# Altium footprint library VibinTest12.PcbLib: 9 footprints
Each footprint in its own frame and in the unit in brackets; x right, y up, seen from the top. Pads: shape width x height; smd on the part's side, far side on the other; paste and mask are expansions set on the pad; w line width, h text height; cw(c..) or ccw(c..) is an arc to the next point about the centre after c.
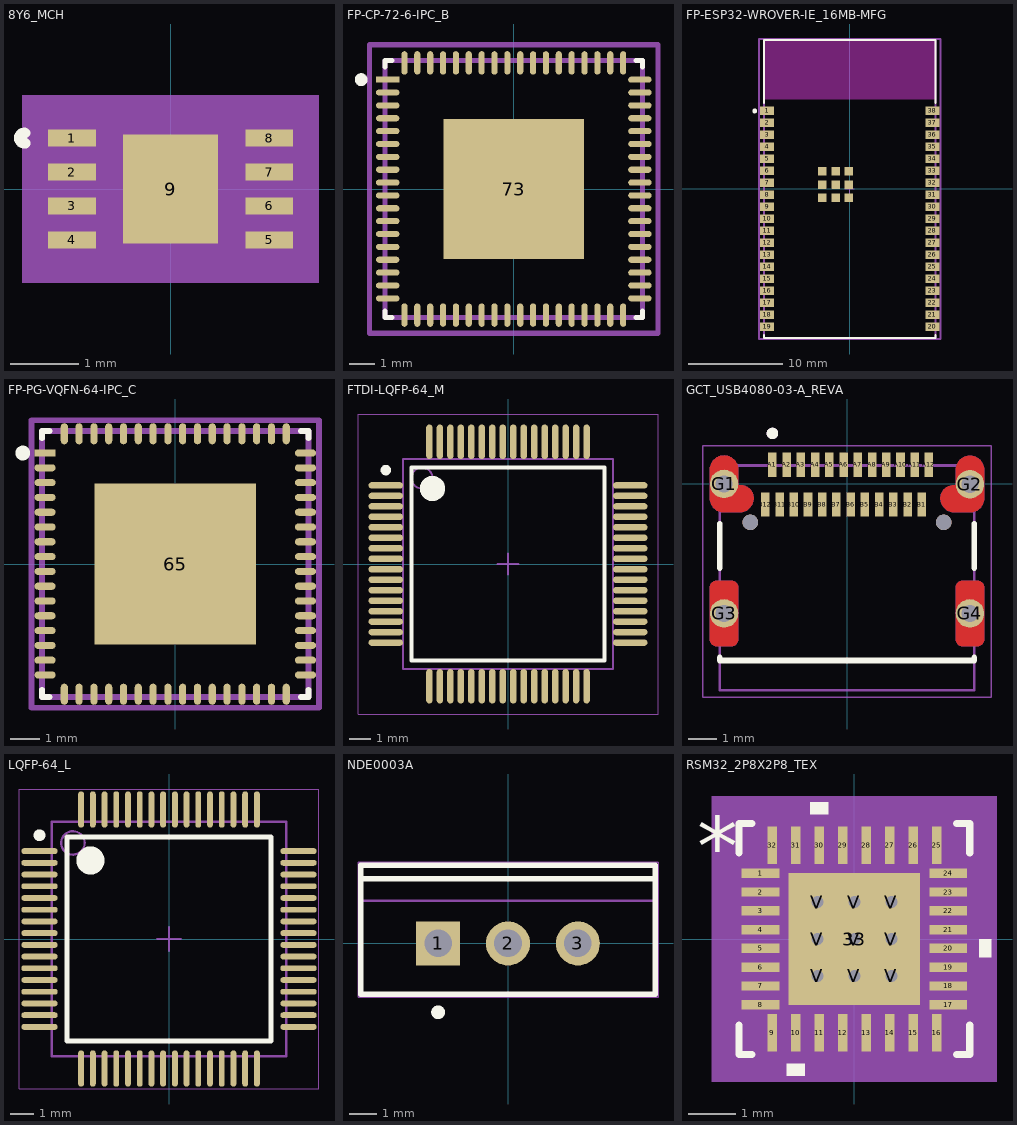
[diagram p0: the footprints below, top view; thin cyan lines are the x and y axes]

## 8Y6_MCH [mm]
pads (9):
  rect 0.705x0.249 smd paste+0 mask+0: 1(-1.452,0.75) 2(-1.452,0.25) 3(-1.452,-0.25) 4(-1.452,-0.75) 5(1.452,-0.75) 6(1.452,-0.25) 7(1.452,0.25) 8(1.452,0.75)
  rect 1.4x1.6 smd paste+0 mask+0: 9(0,0)
Top Overlay:
  lines w0.152: -2.138,0.676 cw(c-2.156,0.75) -2.138,0.824
Top Assembly:
  region: 2.186,-1.381 -2.186,-1.381 -2.186,1.381 2.186,1.381
Top 3D Body:
  lines w0: -0.305,1 ccw(c0,1) 0.305,1
  lines w0.025: -1.5,-1 -1.5,1 1.5,1 1.5,-1 -1.5,-1
Top Courtyard:
  region: -1.754,-1.129 -2.059,-1.129 -2.059,1.129 -1.754,1.129 -1.754,1.254 1.754,1.254 1.754,1.129 2.059,1.129 2.059,-1.129 1.754,-1.129 1.754,-1.254 -1.754,-1.254
  lines w0.152: -2.059,-1.129 -1.754,-1.129 -1.754,-1.254 1.754,-1.254 1.754,-1.129 2.059,-1.129 2.059,1.129 1.754,1.129 1.754,1.254 -1.754,1.254 -1.754,1.129 -2.059,1.129 -2.059,-1.129
3D body "8Y6_MCH.step": height 0.6, standoff 0, extent -1.5,-1 1.5,1
3D body "8Y6_MCH.step": height 0.6, standoff 0, extent -1.5,-1 1.5,1

## FP-CP-72-6-IPC_B [mm]
pads (73):
  rect 0.91x0.239 smd paste+0 mask+0: 1(-4.901,4.25)
  rrect100% 0.91x0.239 smd paste+0 mask+0: 2(-4.901,3.75) 3(-4.901,3.25) 4(-4.901,2.75) 5(-4.901,2.25) 6(-4.901,1.75) 7(-4.901,1.25) 8(-4.901,0.75) 9(-4.901,0.25) 10(-4.901,-0.25) 11(-4.901,-0.75) 12(-4.901,-1.25) 13(-4.901,-1.75) 14(-4.901,-2.25) 15(-4.901,-2.75) 16(-4.901,-3.25) 17(-4.901,-3.75) 18(-4.901,-4.25) 37(4.901,-4.25) 38(4.901,-3.75) 39(4.901,-3.25) 40(4.901,-2.75) 41(4.901,-2.25) 42(4.901,-1.75) 43(4.901,-1.25) 44(4.901,-0.75) 45(4.901,-0.25) 46(4.901,0.25) 47(4.901,0.75) 48(4.901,1.25) 49(4.901,1.75) 50(4.901,2.25) 51(4.901,2.75) 52(4.901,3.25) 53(4.901,3.75) 54(4.901,4.25)
  rrect100% 0.239x0.91 smd paste+0 mask+0: 19(-4.25,-4.901) 20(-3.75,-4.901) 21(-3.25,-4.901) 22(-2.75,-4.901) 23(-2.25,-4.901) 24(-1.75,-4.901) 25(-1.25,-4.901) 26(-0.75,-4.901) 27(-0.25,-4.901) 28(0.25,-4.901) 29(0.75,-4.901) 30(1.25,-4.901) 31(1.75,-4.901) 32(2.25,-4.901) 33(2.75,-4.901) 34(3.25,-4.901) 35(3.75,-4.901) 36(4.25,-4.901) 55(4.25,4.901) 56(3.75,4.901) 57(3.25,4.901) 58(2.75,4.901) 59(2.25,4.901) 60(1.75,4.901) 61(1.25,4.901) 62(0.75,4.901) 63(0.25,4.901) 64(-0.25,4.901) 65(-0.75,4.901) 66(-1.25,4.901) 67(-1.75,4.901) 68(-2.25,4.901) 69(-2.75,4.901) 70(-3.25,4.901) 71(-3.75,4.901) 72(-4.25,4.901)
  rect 5.45x5.45 smd paste-1000 mask+0: 73(0,0)
Top Overlay:
  circle w0.25: c-5.931,4.25 r0.125
  lines w0.2: -5,-4.745 -5,-5 -4.745,-5 ; -5,4.745 -5,5 -4.745,5 ; 4.745,-5 5,-5 5,-4.745 ; 4.745,5 5,5 5,4.745
Top Paste:
  rectangle: -2.057,0.334 -0.334,2.057
  rectangle: 0.334,0.334 2.057,2.057
  rectangle: -2.057,-2.057 -0.334,-0.334
  rectangle: 0.334,-2.057 2.057,-0.334
Top Assembly:
  lines w0.2: -5.606,-5.606 5.606,-5.606 5.606,5.606 -5.606,5.606 -5.606,-5.606
  text ".Designator" at 0,-0.001 h1
Top 3D Body:
  lines w0.2: -5,-5 5,-5 5,5 -5,5 -5,-5
Top Courtyard:
  lines w0.2: -5.606,-5.606 5.606,-5.606 5.606,5.606 -5.606,5.606 -5.606,-5.606
Top Component Center:
  lines w0.1: -0.5,0 0.5,0 ; 0,-0.5 0,0.5
3D body "IC_Analog_Devices_AD9528BCPZ_eec.STEP": height 0.25, standoff 0, extent -5.606,-5.606 5.606,5.606

## FP-ESP32-WROVER-IE_16MB-MFG [mm]
pads (47):
  rect 1.5x0.9 smd paste+0 mask+0: 1(-8.75,8.26) 2(-8.75,6.99) 3(-8.75,5.72) 4(-8.75,4.45) 5(-8.75,3.18) 6(-8.75,1.91) 7(-8.75,0.64) 8(-8.75,-0.63) 9(-8.75,-1.9) 10(-8.75,-3.17) 11(-8.75,-4.44) 12(-8.75,-5.71) 13(-8.75,-6.98) 14(-8.75,-8.25) 15(-8.75,-9.52) 16(-8.75,-10.79) 17(-8.75,-12.06) 18(-8.75,-13.33) 19(-8.75,-14.6) 20(8.75,-14.6) 21(8.75,-13.33) 22(8.75,-12.06) 23(8.75,-10.79) 24(8.75,-9.52) 25(8.75,-8.25) 26(8.75,-6.98) 27(8.75,-5.71) 28(8.75,-4.44) 29(8.75,-3.17) 30(8.75,-1.9) 31(8.75,-0.63) 32(8.75,0.64) 33(8.75,1.91) 34(8.75,3.18) 35(8.75,4.45) 36(8.75,5.72) 37(8.75,6.99) 38(8.75,8.26)
  rect 0.9x0.9 smd paste+0 mask+0: 39(-2.9,-0.94) 39(-2.9,0.46) 39(-2.9,1.86) 39(-1.5,-0.94) 39(-1.5,0.46) 39(-1.5,1.86) 39(-0.1,-0.94) 39(-0.1,0.46) 39(-0.1,1.86)
Top Overlay:
  circle w0.25: c-10.05,8.26 r0.125
  lines w0.2: -9.075,-15.425 -9.075,-15.775 9.075,-15.775 9.075,-15.425 ; -9.075,9.085 -9.075,15.775 9.075,15.775 9.075,9.085
Keep-Out Layer:
  rectangle: -9,9.48 9,15.7
  rectangle: -9,9.48 9,15.7
Top Assembly:
  lines w0.2: -9.6,-15.875 -9.6,15.875 9.6,15.875 9.6,-15.875 -9.6,-15.875
  text ".Designator" at 0,0.188 h1
Top 3D Body:
  lines w0.2: -9.075,-15.775 -9.075,15.775 9.075,15.775 9.075,-15.775 -9.075,-15.775
Top Courtyard:
  lines w0.2: -9.6,-15.875 -9.6,15.875 9.6,15.875 9.6,-15.875 -9.6,-15.875
Top Component Center:
  lines w0.1: -0.5,0 0.5,0 ; 0,-0.5 0,0.5
3D body "UNK_Espressif_Systems_ESP32-WROVER-IE_16MB_eec.STEP": height 0.25, standoff 0, extent -9.6,-15.875 9.6,15.875

## FP-PG-VQFN-64-IPC_C [mm]
pads (65):
  rect 0.712x0.241 smd paste+0 mask+0: 1(-4.4,3.75)
  rrect100% 0.712x0.241 smd paste+0 mask+0: 2(-4.4,3.25) 3(-4.4,2.75) 4(-4.4,2.25) 5(-4.4,1.75) 6(-4.4,1.25) 7(-4.4,0.75) 8(-4.4,0.25) 9(-4.4,-0.25) 10(-4.4,-0.75) 11(-4.4,-1.25) 12(-4.4,-1.75) 13(-4.4,-2.25) 14(-4.4,-2.75) 15(-4.4,-3.25) 16(-4.4,-3.75) 33(4.4,-3.75) 34(4.4,-3.25) 35(4.4,-2.75) 36(4.4,-2.25) 37(4.4,-1.75) 38(4.4,-1.25) 39(4.4,-0.75) 40(4.4,-0.25) 41(4.4,0.25) 42(4.4,0.75) 43(4.4,1.25) 44(4.4,1.75) 45(4.4,2.25) 46(4.4,2.75) 47(4.4,3.25) 48(4.4,3.75)
  rrect100% 0.241x0.712 smd paste+0 mask+0: 17(-3.75,-4.4) 18(-3.25,-4.4) 19(-2.75,-4.4) 20(-2.25,-4.4) 21(-1.75,-4.4) 22(-1.25,-4.4) 23(-0.75,-4.4) 24(-0.25,-4.4) 25(0.25,-4.4) 26(0.75,-4.4) 27(1.25,-4.4) 28(1.75,-4.4) 29(2.25,-4.4) 30(2.75,-4.4) 31(3.25,-4.4) 32(3.75,-4.4) 49(3.75,4.4) 50(3.25,4.4) 51(2.75,4.4) 52(2.25,4.4) 53(1.75,4.4) 54(1.25,4.4) 55(0.75,4.4) 56(0.25,4.4) 57(-0.25,4.4) 58(-0.75,4.4) 59(-1.25,4.4) 60(-1.75,4.4) 61(-2.25,4.4) 62(-2.75,4.4) 63(-3.25,4.4) 64(-3.75,4.4)
  rect 5.45x5.45 smd paste-1000 mask+0: 65(0,0)
Top Overlay:
  circle w0.25: c-5.156,3.75 r0.125
  lines w0.2: -4.5,-4.25 -4.5,-4.5 -4.25,-4.5 ; -4.5,4.25 -4.5,4.5 -4.25,4.5 ; 4.25,-4.5 4.5,-4.5 4.5,-4.25 ; 4.25,4.5 4.5,4.5 4.5,4.25
Top Paste:
  rectangle: 0.334,-2.057 2.057,-0.334
  rectangle: -2.057,-2.057 -0.334,-0.334
  rectangle: 0.334,0.334 2.057,2.057
  rectangle: -2.057,0.334 -0.334,2.057
Top Assembly:
  lines w0.2: -4.856,-4.856 -4.856,4.856 4.856,4.856 4.856,-4.856 -4.856,-4.856
  text ".Designator" at 0,-0.001 h1
Top 3D Body:
  lines w0.2: -4.5,-4.5 -4.5,4.5 4.5,4.5 4.5,-4.5 -4.5,-4.5
Top Courtyard:
  lines w0.2: -4.856,-4.856 -4.856,4.856 4.856,4.856 4.856,-4.856 -4.856,-4.856
Top Component Center:
  lines w0.1: -0.5,0 0.5,0 ; 0,-0.5 0,0.5
3D body "IC_Infineon_MA12040PXUMA1_eec.STEP": height 0.25, standoff 0, extent -4.856,-4.856 4.856,4.856

## FTDI-LQFP-64_M [mm] "QFP, 64-Leads, Body 10.00x10.00mm, Pitch 0.50mm, IPC Low Density"
height 1.6
pads (64):
  oval 1.65x0.3 smd: 1(-5.825,3.75) 2(-5.825,3.25) 3(-5.825,2.75) 4(-5.825,2.25) 5(-5.825,1.75) 6(-5.825,1.25) 7(-5.825,0.75) 8(-5.825,0.25) 9(-5.825,-0.25) 10(-5.825,-0.75) 11(-5.825,-1.25) 12(-5.825,-1.75) 13(-5.825,-2.25) 14(-5.825,-2.75) 15(-5.825,-3.25) 16(-5.825,-3.75) 33(5.825,-3.75) 34(5.825,-3.25) 35(5.825,-2.75) 36(5.825,-2.25) 37(5.825,-1.75) 38(5.825,-1.25) 39(5.825,-0.75) 40(5.825,-0.25) 41(5.825,0.25) 42(5.825,0.75) 43(5.825,1.25) 44(5.825,1.75) 45(5.825,2.25) 46(5.825,2.75) 47(5.825,3.25) 48(5.825,3.75)
  oval 0.3x1.65 smd: 17(-3.75,-5.825) 18(-3.25,-5.825) 19(-2.75,-5.825) 20(-2.25,-5.825) 21(-1.75,-5.825) 22(-1.25,-5.825) 23(-0.75,-5.825) 24(-0.25,-5.825) 25(0.25,-5.825) 26(0.75,-5.825) 27(1.25,-5.825) 28(1.75,-5.825) 29(2.25,-5.825) 30(2.75,-5.825) 31(3.25,-5.825) 32(3.75,-5.825) 49(3.75,5.825) 50(3.25,5.825) 51(2.75,5.825) 52(2.25,5.825) 53(1.75,5.825) 54(1.25,5.825) 55(0.75,5.825) 56(0.25,5.825) 57(-0.25,5.825) 58(-0.75,5.825) 59(-1.25,5.825) 60(-1.75,5.825) 61(-2.25,5.825) 62(-2.75,5.825) 63(-3.25,5.825) 64(-3.75,5.825)
Top Overlay:
  circle w0.25: c-5.825,4.475 r0.125
  circle w0.6: c-3.6,3.6 r0.3
  lines w0.2: -4.6,-4.6 -4.6,4.6 4.6,4.6 4.6,-4.6 -4.6,-4.6
Top 3D Body:
  circle w0.1: c-4.1,4.1 r0.5
  lines w0.1: -5,-5 -5,5 5,5 5,-5 -5,-5
Top Courtyard:
  lines w0.05: -7.15,-7.15 -7.15,7.15 7.15,7.15 7.15,-7.15 -7.15,-7.15
  lines w0.1: -0.5,0 0.5,0 ; 0,-0.5 0,0.5
3D body "TSQFP50P1200X1200X160-64M.step": height 1.6, standoff 0, extent -6,-6 6,6

## GCT_USB4080-03-A_REVA [mm]
pads (30):
  rect 0.3x0.85 smd: A1(-2.62,0.675) A2(-2.12,0.675) A3(-1.62,0.675) A4(-1.12,0.675) A5(-0.62,0.675) A6(-0.12,0.675) A7(0.38,0.675) A8(0.88,0.675) A9(1.38,0.675) A10(1.88,0.675) A11(2.38,0.675) A12(2.88,0.675) B1(2.63,-0.725) B2(2.13,-0.725) B3(1.63,-0.725) B4(1.13,-0.725) B5(0.63,-0.725) B6(0.13,-0.725) B7(-0.37,-0.725) B8(-0.87,-0.725) B9(-1.37,-0.725) B10(-1.87,-0.725) B11(-2.37,-0.725) B12(-2.87,-0.725)
  round 1 hole 0.6: G1(-4.32,0) G2(4.32,-0.01)
  round 1 hole 0.6 square mask+0: G3(-4.32,-4.55) G4(4.32,-4.55)
  round 0.55 hole 0.55 unplated: ""(-3.4,-1.35) ""(3.4,-1.35)
Top Layer:
  region: 185 vertices and 0 holes, not listed, extent -4.82,-1 -3.28,1
  region: 184 vertices and 0 holes, not listed, extent 3.28,-1 4.82,0.99
  region: -4.057,-3.4 -4.044,-3.401 -4.031,-3.403 -4.018,-3.405 -4.005,-3.409 -3.993,-3.412 -3.98,-3.417 -3.968,-3.422 -3.957,-3.427 -3.945,-3.433 -3.934,-3.44 -3.923,-3.448 -3.913,-3.456 -3.903,-3.464 -3.893,-3.473 -3.884,-3.483 -3.876,-3.493 -3.868,-3.503 -3.86,-3.514 -3.853,-3.525 -3.847,-3.537 -3.842,-3.548 -3.837,-3.56 -3.832,-3.573 -3.829,-3.585 -3.825,-3.598 -3.823,-3.611 -3.821,-3.624 -3.82,-3.637 -3.82,-3.65 -3.82,-5.45 -3.82,-5.463 -3.821,-5.476 -3.823,-5.489 -3.825,-5.502 -3.829,-5.515 -3.832,-5.527 -3.837,-5.54 -3.842,-5.552 -3.847,-5.563 -3.853,-5.575 -3.86,-5.586 -3.868,-5.597 -3.876,-5.607 -3.884,-5.617 -3.893,-5.627 -3.903,-5.636 -3.913,-5.644 -3.923,-5.652 -3.934,-5.66 -3.945,-5.667 -3.957,-5.673 -3.968,-5.678 -3.98,-5.683 -3.993,-5.688 -4.005,-5.691 -4.018,-5.695 -4.031,-5.697 -4.044,-5.699 -4.057,-5.7 -4.07,-5.7 -4.57,-5.7 -4.583,-5.7 -4.596,-5.699 -4.609,-5.697 -4.622,-5.695 -4.635,-5.691 -4.647,-5.688 -4.66,-5.683 -4.672,-5.678 -4.683,-5.673 -4.695,-5.667 -4.706,-5.66 -4.717,-5.652 -4.727,-5.644 -4.737,-5.636 -4.747,-5.627 -4.756,-5.617 -4.764,-5.607 -4.772,-5.597 -4.78,-5.586 -4.787,-5.575 -4.793,-5.563 -4.798,-5.552 -4.803,-5.54 -4.808,-5.527 -4.811,-5.515 -4.815,-5.502 -4.817,-5.489 -4.819,-5.476 -4.82,-5.463 -4.82,-5.45 -4.82,-3.65 -4.82,-3.637 -4.819,-3.624 -4.817,-3.611 -4.815,-3.598 -4.811,-3.585 -4.808,-3.573 -4.803,-3.56 -4.798,-3.548 -4.793,-3.537 -4.787,-3.525 -4.78,-3.514 -4.772,-3.503 -4.764,-3.493 -4.756,-3.483 -4.747,-3.473 -4.737,-3.464 -4.727,-3.456 -4.717,-3.448 -4.706,-3.44 -4.695,-3.433 -4.683,-3.427 -4.672,-3.422 -4.66,-3.417 -4.647,-3.412 -4.635,-3.409 -4.622,-3.405 -4.609,-3.403 -4.596,-3.401 -4.583,-3.4 -4.57,-3.4 -4.07,-3.4
  region: 4.583,-3.4 4.596,-3.401 4.609,-3.403 4.622,-3.405 4.635,-3.409 4.647,-3.412 4.66,-3.417 4.672,-3.422 4.683,-3.427 4.695,-3.433 4.706,-3.44 4.717,-3.448 4.727,-3.456 4.737,-3.464 4.747,-3.473 4.756,-3.483 4.764,-3.493 4.772,-3.503 4.78,-3.514 4.787,-3.525 4.793,-3.537 4.798,-3.548 4.803,-3.56 4.808,-3.573 4.811,-3.585 4.815,-3.598 4.817,-3.611 4.819,-3.624 4.82,-3.637 4.82,-3.65 4.82,-5.45 4.82,-5.463 4.819,-5.476 4.817,-5.489 4.815,-5.502 4.811,-5.515 4.808,-5.527 4.803,-5.54 4.798,-5.552 4.793,-5.563 4.787,-5.575 4.78,-5.586 4.772,-5.597 4.764,-5.607 4.756,-5.617 4.747,-5.627 4.737,-5.636 4.727,-5.644 4.717,-5.652 4.706,-5.66 4.695,-5.667 4.683,-5.673 4.672,-5.678 4.66,-5.683 4.647,-5.688 4.635,-5.691 4.622,-5.695 4.609,-5.697 4.596,-5.699 4.583,-5.7 4.57,-5.7 4.07,-5.7 4.057,-5.7 4.044,-5.699 4.031,-5.697 4.018,-5.695 4.005,-5.691 3.993,-5.688 3.98,-5.683 3.968,-5.678 3.957,-5.673 3.945,-5.667 3.934,-5.66 3.923,-5.652 3.913,-5.644 3.903,-5.636 3.893,-5.627 3.884,-5.617 3.876,-5.607 3.868,-5.597 3.86,-5.586 3.853,-5.575 3.847,-5.563 3.842,-5.552 3.837,-5.54 3.832,-5.527 3.829,-5.515 3.825,-5.502 3.823,-5.489 3.821,-5.476 3.82,-5.463 3.82,-5.45 3.82,-3.65 3.82,-3.637 3.821,-3.624 3.823,-3.611 3.825,-3.598 3.829,-3.585 3.832,-3.573 3.837,-3.56 3.842,-3.548 3.847,-3.537 3.853,-3.525 3.86,-3.514 3.868,-3.503 3.876,-3.493 3.884,-3.483 3.893,-3.473 3.903,-3.464 3.913,-3.456 3.923,-3.448 3.934,-3.44 3.945,-3.433 3.957,-3.427 3.968,-3.422 3.98,-3.417 3.993,-3.412 4.005,-3.409 4.018,-3.405 4.031,-3.403 4.044,-3.401 4.057,-3.4 4.07,-3.4 4.57,-3.4
Bottom Layer:
  region: 185 vertices and 0 holes, not listed, extent -4.82,-1 -3.28,1
  region: 184 vertices and 0 holes, not listed, extent 3.28,-1 4.82,0.99
  region: -4.057,-3.4 -4.044,-3.401 -4.031,-3.403 -4.018,-3.405 -4.005,-3.409 -3.993,-3.412 -3.98,-3.417 -3.968,-3.422 -3.957,-3.427 -3.945,-3.433 -3.934,-3.44 -3.923,-3.448 -3.913,-3.456 -3.903,-3.464 -3.893,-3.473 -3.884,-3.483 -3.876,-3.493 -3.868,-3.503 -3.86,-3.514 -3.853,-3.525 -3.847,-3.537 -3.842,-3.548 -3.837,-3.56 -3.832,-3.573 -3.829,-3.585 -3.825,-3.598 -3.823,-3.611 -3.821,-3.624 -3.82,-3.637 -3.82,-3.65 -3.82,-5.45 -3.82,-5.463 -3.821,-5.476 -3.823,-5.489 -3.825,-5.502 -3.829,-5.515 -3.832,-5.527 -3.837,-5.54 -3.842,-5.552 -3.847,-5.563 -3.853,-5.575 -3.86,-5.586 -3.868,-5.597 -3.876,-5.607 -3.884,-5.617 -3.893,-5.627 -3.903,-5.636 -3.913,-5.644 -3.923,-5.652 -3.934,-5.66 -3.945,-5.667 -3.957,-5.673 -3.968,-5.678 -3.98,-5.683 -3.993,-5.688 -4.005,-5.691 -4.018,-5.695 -4.031,-5.697 -4.044,-5.699 -4.057,-5.7 -4.07,-5.7 -4.57,-5.7 -4.583,-5.7 -4.596,-5.699 -4.609,-5.697 -4.622,-5.695 -4.635,-5.691 -4.647,-5.688 -4.66,-5.683 -4.672,-5.678 -4.683,-5.673 -4.695,-5.667 -4.706,-5.66 -4.717,-5.652 -4.727,-5.644 -4.737,-5.636 -4.747,-5.627 -4.756,-5.617 -4.764,-5.607 -4.772,-5.597 -4.78,-5.586 -4.787,-5.575 -4.793,-5.563 -4.798,-5.552 -4.803,-5.54 -4.808,-5.527 -4.811,-5.515 -4.815,-5.502 -4.817,-5.489 -4.819,-5.476 -4.82,-5.463 -4.82,-5.45 -4.82,-3.65 -4.82,-3.637 -4.819,-3.624 -4.817,-3.611 -4.815,-3.598 -4.811,-3.585 -4.808,-3.573 -4.803,-3.56 -4.798,-3.548 -4.793,-3.537 -4.787,-3.525 -4.78,-3.514 -4.772,-3.503 -4.764,-3.493 -4.756,-3.483 -4.747,-3.473 -4.737,-3.464 -4.727,-3.456 -4.717,-3.448 -4.706,-3.44 -4.695,-3.433 -4.683,-3.427 -4.672,-3.422 -4.66,-3.417 -4.647,-3.412 -4.635,-3.409 -4.622,-3.405 -4.609,-3.403 -4.596,-3.401 -4.583,-3.4 -4.57,-3.4 -4.07,-3.4
  region: 4.583,-3.4 4.596,-3.401 4.609,-3.403 4.622,-3.405 4.635,-3.409 4.647,-3.412 4.66,-3.417 4.672,-3.422 4.683,-3.427 4.695,-3.433 4.706,-3.44 4.717,-3.448 4.727,-3.456 4.737,-3.464 4.747,-3.473 4.756,-3.483 4.764,-3.493 4.772,-3.503 4.78,-3.514 4.787,-3.525 4.793,-3.537 4.798,-3.548 4.803,-3.56 4.808,-3.573 4.811,-3.585 4.815,-3.598 4.817,-3.611 4.819,-3.624 4.82,-3.637 4.82,-3.65 4.82,-5.45 4.82,-5.463 4.819,-5.476 4.817,-5.489 4.815,-5.502 4.811,-5.515 4.808,-5.527 4.803,-5.54 4.798,-5.552 4.793,-5.563 4.787,-5.575 4.78,-5.586 4.772,-5.597 4.764,-5.607 4.756,-5.617 4.747,-5.627 4.737,-5.636 4.727,-5.644 4.717,-5.652 4.706,-5.66 4.695,-5.667 4.683,-5.673 4.672,-5.678 4.66,-5.683 4.647,-5.688 4.635,-5.691 4.622,-5.695 4.609,-5.697 4.596,-5.699 4.583,-5.7 4.57,-5.7 4.07,-5.7 4.057,-5.7 4.044,-5.699 4.031,-5.697 4.018,-5.695 4.005,-5.691 3.993,-5.688 3.98,-5.683 3.968,-5.678 3.957,-5.673 3.945,-5.667 3.934,-5.66 3.923,-5.652 3.913,-5.644 3.903,-5.636 3.893,-5.627 3.884,-5.617 3.876,-5.607 3.868,-5.597 3.86,-5.586 3.853,-5.575 3.847,-5.563 3.842,-5.552 3.837,-5.54 3.832,-5.527 3.829,-5.515 3.825,-5.502 3.823,-5.489 3.821,-5.476 3.82,-5.463 3.82,-5.45 3.82,-3.65 3.82,-3.637 3.821,-3.624 3.823,-3.611 3.825,-3.598 3.829,-3.585 3.832,-3.573 3.837,-3.56 3.842,-3.548 3.847,-3.537 3.853,-3.525 3.86,-3.514 3.868,-3.503 3.876,-3.493 3.884,-3.483 3.893,-3.473 3.903,-3.464 3.913,-3.456 3.923,-3.448 3.934,-3.44 3.945,-3.433 3.957,-3.427 3.968,-3.422 3.98,-3.417 3.993,-3.412 4.005,-3.409 4.018,-3.405 4.031,-3.403 4.044,-3.401 4.057,-3.4 4.07,-3.4 4.57,-3.4
Top Overlay:
  circle w0.2: c-2.62,1.775 r0.1
  lines w0.2: -4.47,-6.1 -4.47,-6.2 4.47,-6.2 4.47,-6.1 ; -4.47,-2.95 -4.47,-1.4 ; 4.47,-2.95 4.47,-1.4
Top Solder:
  drawing of 4 lines, arcs and shapes, not listed
Bottom Solder:
  drawing of 4 lines, arcs and shapes, not listed
Mechanical 1:
  lines w0: 4,-0.2 ccw(c4.005,-0.185) 4.02,-0.19 4.02,0.5 cw(c4.32,0.5) 4.32,0.8 cw(c4.32,0.5) 4.62,0.5 4.62,-0.5 cw(c4.32,-0.5) 4.32,-0.8 3.72,-0.8 cw(c3.72,-0.5) 3.42,-0.5 cw(c3.72,-0.5) 3.72,-0.2 4,-0.2 ; -4.62,-0.5 ccw(c-4.32,-0.5) -4.32,-0.8 -3.72,-0.8 ccw(c-3.72,-0.5) -3.42,-0.5 ccw(c-3.72,-0.5) -3.72,-0.2 -4,-0.2 cw(c-4,-0.18) -4.02,-0.18 -4.02,0.5 ccw(c-4.32,0.5) -4.32,0.8 ccw(c-4.32,0.5) -4.62,0.5 -4.62,-0.5
Top 3D Body:
  circle w0.2: c-2.62,1.775 r0.1
  lines w0.1: -4.47,-6.2 -4.47,0.65 4.47,0.65 4.47,-6.2 ; -4.47,-6.2 -4.47,-7.25 4.47,-7.25 4.47,-6.2 ; -4.47,-6.2 4.47,-6.2
Top Courtyard:
  lines w0.05: -5.07,-7.5 -5.07,1.35 5.07,1.35 5.07,-7.5 -5.07,-7.5
3D body "step_temp.STEP": height 3.26, standoff -0.5, extent -4.47,-7.25 4.47,1

## LQFP-64_L [mm] "Thin QFP, 64-Leads, Body 10x10mm, Pitch 0.5mm, IPC High Density"
height 1.6
pads (64):
  oval 1.55x0.25 smd: 1(-5.525,3.75) 2(-5.525,3.25) 3(-5.525,2.75) 4(-5.525,2.25) 5(-5.525,1.75) 6(-5.525,1.25) 7(-5.525,0.75) 8(-5.525,0.25) 9(-5.525,-0.25) 10(-5.525,-0.75) 11(-5.525,-1.25) 12(-5.525,-1.75) 13(-5.525,-2.25) 14(-5.525,-2.75) 15(-5.525,-3.25) 16(-5.525,-3.75) 33(5.525,-3.75) 34(5.525,-3.25) 35(5.525,-2.75) 36(5.525,-2.25) 37(5.525,-1.75) 38(5.525,-1.25) 39(5.525,-0.75) 40(5.525,-0.25) 41(5.525,0.25) 42(5.525,0.75) 43(5.525,1.25) 44(5.525,1.75) 45(5.525,2.25) 46(5.525,2.75) 47(5.525,3.25) 48(5.525,3.75)
  oval 0.25x1.55 smd: 17(-3.75,-5.525) 18(-3.25,-5.525) 19(-2.75,-5.525) 20(-2.25,-5.525) 21(-1.75,-5.525) 22(-1.25,-5.525) 23(-0.75,-5.525) 24(-0.25,-5.525) 25(0.25,-5.525) 26(0.75,-5.525) 27(1.25,-5.525) 28(1.75,-5.525) 29(2.25,-5.525) 30(2.75,-5.525) 31(3.25,-5.525) 32(3.75,-5.525) 49(3.75,5.525) 50(3.25,5.525) 51(2.75,5.525) 52(2.25,5.525) 53(1.75,5.525) 54(1.25,5.525) 55(0.75,5.525) 56(0.25,5.525) 57(-0.25,5.525) 58(-0.75,5.525) 59(-1.25,5.525) 60(-1.75,5.525) 61(-2.25,5.525) 62(-2.75,5.525) 63(-3.25,5.525) 64(-3.75,5.525)
Top Overlay:
  circle w0.25: c-5.525,4.425 r0.125
  circle w0.6: c-3.35,3.35 r0.3
  lines w0.2: -4.35,-4.35 -4.35,4.35 4.35,4.35 4.35,-4.35 -4.35,-4.35
Top 3D Body:
  circle w0.1: c-4.1,4.1 r0.5
  lines w0.1: -5,-5 -5,5 5,5 5,-5 -5,-5
Top Courtyard:
  lines w0.05: -6.4,-6.4 -6.4,6.4 6.4,6.4 6.4,-6.4 -6.4,-6.4
  lines w0.1: -0.5,0 0.5,0 ; 0,-0.5 0,0.5
3D body: height 1.6, standoff 0, extent -5,-5 5,5

## NDE0003A [mm] "FM, 3-Leads, Body 10.7x4.7mm, Pitch 2.54mm"
height 19.4
pads (3):
  rect 1.6x1.6 hole 1: 1(-2.54,0)
  round 1.6 hole 1: 2(0,0) 3(2.54,0)
Top Overlay:
  circle w0.25: c-2.54,-2.5 r0.125
  lines w0.2: -5.35,2.35 5.35,2.35 ; -5.35,-1.85 5.35,-1.85 5.35,2.85 -5.35,2.85 -5.35,-1.85
Mechanical 1:
  text ".Designator" at -1.524,-0.508 h1.02
Top 3D Body:
  lines w0.1: -5.35,1.55 5.35,1.55 ; -5.35,-1.85 5.35,-1.85 5.35,2.85 -5.35,2.85 -5.35,-1.85
Top Courtyard:
  lines w0.05: -5.45,-1.95 -5.45,2.95 5.45,2.95 5.45,-1.95 -5.45,-1.95
  lines w0.1: -0.5,0 0.5,0 ; 0,-0.5 0,0.5
3D body: height 19.4, standoff 12.9, extent -5.349,1.551 5.349,2.849
3D body: height 12.9, standoff 4, extent -5.4,-1.9 5.4,2.9

## RSM32_2P8X2P8_TEX [mm]
pads (42):
  rect 0.8x0.2 smd paste-0.1 mask+0: 1(-2,1.4) 2(-2,1) 3(-2,0.6) 4(-2,0.2) 5(-2,-0.2) 6(-2,-0.6) 7(-2,-1) 8(-2,-1.4) 17(2,-1.4) 18(2,-1) 19(2,-0.6) 20(2,-0.2) 21(2,0.2) 22(2,0.6) 23(2,1) 24(2,1.4)
  rect 0.2x0.8 smd paste-0.1 mask+0: 9(-1.75,-2) 10(-1.25,-2) 11(-0.75,-2) 12(-0.25,-2) 13(0.25,-2) 14(0.75,-2) 15(1.25,-2) 16(1.75,-2) 25(1.75,2) 26(1.25,2) 27(0.75,2) 28(0.25,2) 29(-0.25,2) 30(-0.75,2) 31(-1.25,2) 32(-1.75,2)
  rect 2.8x2.8 smd paste-1.387 mask-1.384: 33(0,0)
  round 0.508 hole 0.254: V(-0.787,-0.787) V(-0.787,0) V(-0.787,0.787) V(0,-0.787) V(0,0) V(0,0.787) V(0.787,-0.787) V(0.787,0) V(0.787,0.787)
Top Overlay:
  region: -1.06,-2.654 -1.441,-2.654 -1.441,-2.908 -1.06,-2.908
  region: 2.654,-0.009 2.908,-0.009 2.908,-0.39 2.654,-0.39
  region: -0.56,2.654 -0.941,2.654 -0.941,2.908 -0.56,2.908
  lines w0.152: -2.456,-1.828 -2.456,-2.456 -2.178,-2.456 ; -2.456,1.828 -2.456,2.456 -2.178,2.456 ; 2.178,-2.456 2.456,-2.456 2.456,-1.828 ; 2.178,2.456 2.456,2.456 2.456,1.828
  text "*" at -3.353,1.346 h1.27
Top Paste:
  drawing of 16 lines, arcs and shapes, not listed
Top Solder:
  region: -1.463,0.987 -1.463,1.463 1.463,1.463 1.463,0.987
  region: -1.463,0.2 -1.463,0.587 1.463,0.587 1.463,0.2
  region: -1.463,-0.587 -1.463,-0.2 1.463,-0.2 1.463,-0.587
  region: -1.463,-1.463 -1.463,-0.987 1.463,-0.987 1.463,-1.463
  region: -1.463,-1.463 -1.463,1.463 -0.987,1.463 -0.987,-1.463
  region: -0.2,-1.463 -0.2,1.463 -0.587,1.463 -0.587,-1.463
  region: 0.587,-1.463 0.587,1.463 0.2,1.463 0.2,-1.463
  region: 0.987,-1.463 0.987,1.463 1.463,1.463 1.463,-1.463
Top Assembly:
  region: 3.035,-3.035 -3.035,-3.035 -3.035,3.035 3.035,3.035
Top 3D Body:
  lines w0.025: -2.075,0.805 -0.805,2.075 ; -2.075,-2.075 2.075,-2.075 2.075,2.075 -2.075,2.075 -2.075,-2.075
  text "*" at -1.663,0.965 h1.27
Top Courtyard:
  region: -2.104,-2.329 -2.329,-2.329 -2.329,-1.754 -2.654,-1.754 -2.654,1.754 -2.329,1.754 -2.329,2.329 -2.104,2.329 -2.104,2.654 2.104,2.654 2.104,2.329 2.329,2.329 2.329,1.754 2.654,1.754 2.654,-1.754 2.329,-1.754 2.329,-2.329 2.104,-2.329 2.104,-2.654 -2.104,-2.654
  lines w0.152: -2.654,-1.754 -2.329,-1.754 -2.329,-2.329 -2.104,-2.329 -2.104,-2.654 2.104,-2.654 2.104,-2.329 2.329,-2.329 2.329,-1.754 2.654,-1.754 2.654,1.754 2.329,1.754 2.329,2.329 2.104,2.329 2.104,2.654 -2.104,2.654 -2.104,2.329 -2.329,2.329 -2.329,1.754 -2.654,1.754 -2.654,-1.754
3D body "RSM32_2P8X2P8_TEX.step": height 1, standoff 0, extent -2.126,-2.126 2.126,2.126
3D body "RSM32_2P8X2P8_TEX.step": height 1, standoff 0, extent -2.126,-2.126 2.126,2.126